# Altium footprint library MurataCapacitor.PcbLib: 5 footprints
Each footprint in its own frame and in the unit in brackets; x right, y up, seen from the top. Pads: shape width x height; smd on the part's side, far side on the other; paste and mask are expansions set on the pad; w line width, h text height; cw(c..) or ccw(c..) is an arc to the next point about the centre after c.
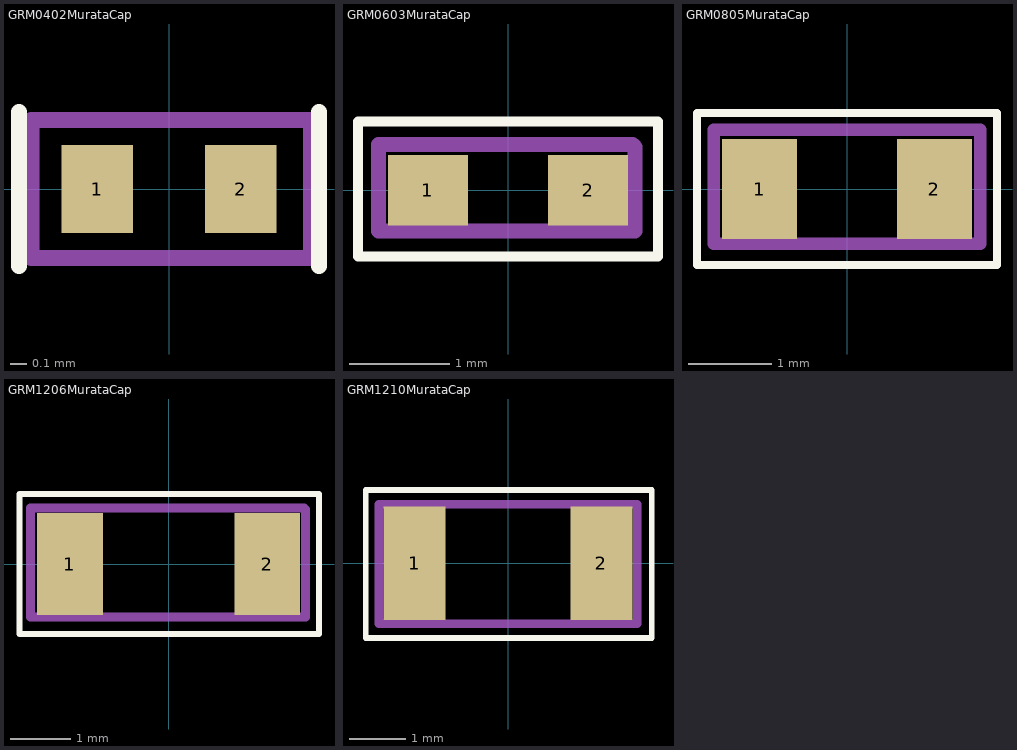
[diagram p0: the footprints below, top view; thin cyan lines are the x and y axes]

## GRM0402MurataCap [mm]
pads (2):
  rect 0.45x0.55 smd: 1(-0.45,0) 2(0.45,0)
Top Overlay:
  lines w0.102: -0.94,-0.483 -0.94,0.483 ; 0.94,-0.483 0.94,0.483
Mechanical 29:
  lines w0.102: -0.864,-0.432 -0.864,0.432 0.889,0.432 0.889,-0.432 -0.864,-0.432
  text ".Designator" at -0.66,-0.127 h0.38
3D body "User Library-SMD CAPACITOR0402.STEP": height 0.46, standoff -0.04, extent -0.5,-0.25 0.5,0.25

## GRM0603MurataCap [mm]
pads (2):
  rect 0.8x0.7 smd: 1(-0.8,0) 2(0.8,0)
Top Overlay:
  lines w0.1: -1.499,-0.66 1.499,-0.66 1.499,0.686 -1.499,0.686 -1.499,-0.66
Mechanical 29:
  lines w0.15: -1.295,-0.406 -1.295,0.457 1.245,0.457 1.27,0.432 1.27,-0.406 -1.295,-0.406
  text ".Designator" at -0.838,-0.127 h0.38
3D body "User Library-SMD CAPACITOR0603.STEP": height 0.79, standoff -0.01, extent -0.8,-0.4 0.8,0.4

## GRM0805MurataCap [mm]
pads (2):
  rect 0.9x1.2 smd: 1(-1.05,0) 2(1.05,0)
Top Overlay:
  lines w0.1: -1.803,-0.914 -1.803,0.914 1.803,0.914 1.803,-0.914 -1.803,-0.914
Mechanical 29:
  lines w0.15: -1.6,-0.66 -1.6,0.711 1.295,0.711 1.6,0.711 1.6,-0.66 1.27,-0.66 -1.6,-0.66
  text ".Designator" at -0.864,-0.127 h0.38
3D body "User Library-SMD CAPACITOR0805.STEP": height 0.59, standoff -0.01, extent -0.95,-0.625 1.05,0.625

## GRM1206MurataCap [mm]
pads (2):
  rect 1.1x1.7 smd: 1(-1.65,0) 2(1.65,0)
Top Overlay:
  lines w0.1: -2.489,-1.168 -2.489,1.168 2.515,1.168 2.515,-1.168 -2.489,-1.168
Mechanical 29:
  lines w0.15: -2.311,-0.889 -2.311,0.94 2.261,0.94 2.286,0.914 2.286,-0.889 -2.311,-0.889
  text ".Designator" at -0.838,-0.102 h0.38
3D body "User Library-SMD CAPACITOR1206.STEP": height 0.78, standoff 0, extent -1.6,-0.8 1.6,0.8

## GRM1210MurataCap [mm]
pads (2):
  rect 1.1x2 smd: 1(-1.65,0) 2(1.65,0)
Top Overlay:
  lines w0.1: -2.515,-1.321 -2.515,1.295 2.54,1.295 2.54,-1.321 -2.515,-1.321
Mechanical 29:
  lines w0.15: -2.286,-1.067 2.286,-1.067 2.286,1.041 -2.286,1.041 -2.286,-1.067
  text ".Designator" at -0.762,-0.127 h0.38
3D body "User Library-SMD CAPACITOR1210.STEP": height 0.78, standoff 0, extent -1.6,-1.25 1.6,1.25